# Altium schematic symbol library CONN_WSYN.SchLib: 4 symbols
Pins are listed as number, name and electrical type; pins without a type are passive.

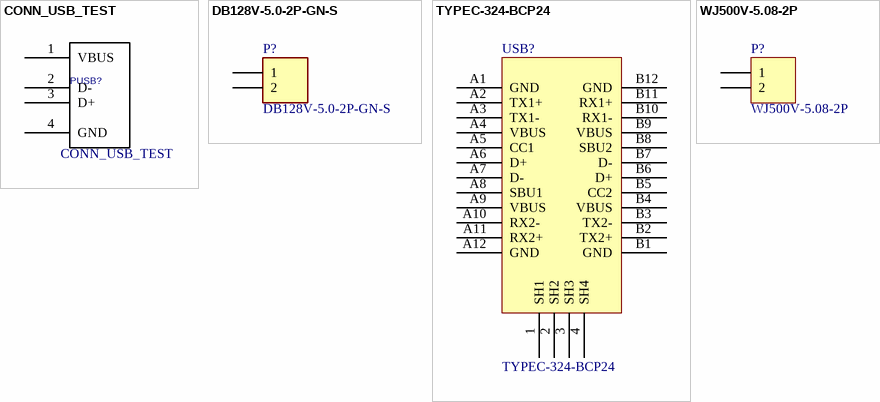
[diagram p0: symbols CONN_USB_TEST to WJ500V-5.08-2P]

## CONN_USB_TEST
designator PUSB?
CONN, USB, TEST; VALUE: CONN_USB_TEST
footprint USBTEST (CONN, USB A Receptacle RIGHT ANGLE)
pins: 1 VBUS, 2 D-, 3 D+, 4 GND

## DB128V-5.0-2P-GN-S
designator P?
间距：5mm 结构：1x2P 排数：1 每排PIN数：2 安装方式：直针 额定电流：20A 额定电压：300V 线规 - AWG：12~30 线规 - mm2：2.5 工作温度范围：-40℃~+105℃ 颜色：绿色; LatestRevisionDate: 17-Jul-2002; LatestRevisionNote: Re-released for DXP Platform.; Publisher: Altium Limited
signal-integrity model Connector
footprint CONN-TH_2P-P5.00_DB128V-5.0-2P
pins: 1, 2

## TYPEC-324-BCP24
designator USB?
manufacturer: XUNPU
footprint USB-C-SMD_TYPEC-324-BCP24
pins: 1 SH1, 2 SH2, 3 SH3, 4 SH4, A1 GND, A2 TX1+, A3 TX1-, A4 VBUS, A5 CC1, A6 D+, A7 D-, A8 SBU1, A9 VBUS, A10 RX2-, A11 RX2+, A12 GND, B1 GND, B2 TX2+, B3 TX2-, B4 VBUS, B5 CC2, B6 D+, B7 D-, B8 SBU2, B9 VBUS, B10 RX1-, B11 RX1+, B12 GND

## WJ500V-5.08-2P
designator P?
间距：5.08mm 结构：1x2P 排数：1 每排PIN数：2 安装方式：直针 额定电流：18A 额定电压：250V 线规 - AWG：14~30 线规 - mm2：2.5 工作温度范围：-40℃~+105℃ 颜色：绿色 可拼接; LatestRevisionDate: 17-Jul-2002; LatestRevisionNote: Re-released for DXP Platform.; Publisher: Altium Limited
signal-integrity model Connector
footprint CONN-TH_2P-P5.00_WJ500V-5.08-2P
pins: 1, 2